# Altium footprint library NKK Switch.PcbLib: 1 footprints
Each footprint in its own frame and in the unit in brackets; x right, y up, seen from the top. Pads: shape width x height; smd on the part's side, far side on the other; paste and mask are expansions set on the pad; w line width, h text height; cw(c..) or ccw(c..) is an arc to the next point about the centre after c.
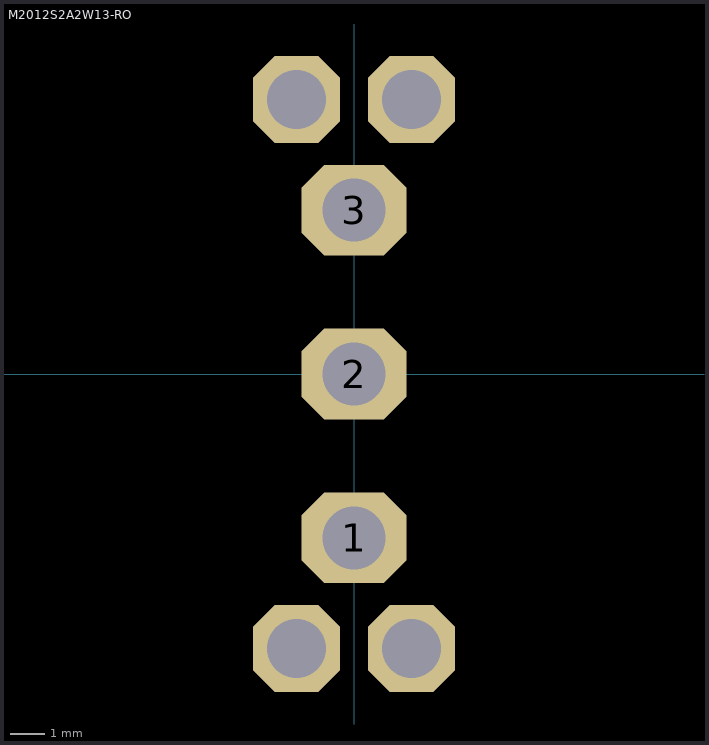
[diagram p0: the footprint, top view; thin cyan lines are the x and y axes]

## M2012S2A2W13-RO [mm] "SWITCH TOGGLE SPDT 6A VERT PC"
pads (7):
  oct 3x2.6 hole 1.8: 1(0,-4.699) 2(0,0) 3(0,4.699)
  oct 2.5x2.5 hole 1.7: ""(-1.651,-7.874) ""(-1.651,7.874) ""(1.651,-7.874) ""(1.651,7.874)
3D body: height 30.97, standoff -4.76, extent -4,-8.179 4,8.128